# EAGLE library part XC2C384_FT256 (library m-pad-2.1)
XILINX's XC2C384 CoolRunner-II CPLD Description The CoolRunner-II 384-macrocell device is designed for both high performance and low power applications. This lends power savings to high-end communication equipment and high speed to battery operated devices. Due to the low power stand-by and dynamic operation, overall system reliability is improved This device consists of twenty four Function Blocks inter-connected by a low power Advanced Interconnect Matrix (AIM). The AIM feeds 40 true and complement inputs to each Function Block. The Function Blocks consist of a 40 by 56 P-term PLA and 16 macrocells which contain numerous configuration bits that allow for combinational or registered modes of operation. Additionally, these registers can be globally reset or preset and configured as a D or T flip-flop or as a D latch. There are also multiple clock signals, both global and local product term types, configured on a per macrocell basis. Output pin configurations include slew rate limit, bus hold, pull-up, open drain and programmable grounds. A Schmitt-trigger input is available on a per input pin basis. In addition to storing macrocell output states, the macrocell registers may be configured as direct input registers to store signals directly from input pins. Clocking is available on a global or Function Block basis. Three global clocks are available for all Function Blocks as a synchronous clock source. Macrocell registers can be individually configured to power up to the zero or one state. A global set/reset control line is also available to asynchronously set or reset selected registers during operation. Additional local clock, synchronous clock-enable, asynchronous set/reset and output enable signals can be formed using product terms on a per-macrocell or per-Function Block basis. A DualEDGE flip-flop feature is also available on a per macrocell basis. This feature allows high performance synchronous operation based on lower frequency clocking to help reduce the total power consumption of the device. Circuitry has also been included to divide one externally supplied global clock (GCK2) by eight different selections. This yields divide by even and odd clock frequencies. The use of the clock divide (division by 2) and DualEDGE flip-flop gives the resultant CoolCLOCK feature. DataGATE is a method to selectively disable inputs of the CPLD that are not of interest during certain points in time. By mapping a signal to the DataGATE function, lower power can be achieved due to reduction in signal switching. Another feature that eases voltage translation is I/O banking. Four I/O banks are available on the CoolRunner-II 384 macrocell device that permit easy interfacing to 3.3V, 2.5V, 1.8V, and 1.5V devices. The CoolRunner-II 384 macrocell CPLD is I/O compatible with various I/O standards (see Table 1). This device is also 1.5V I/O compatible with the use of Schmitt-trigger inputs. Features: Optimized for 1.8V systems - As fast as 7.1 ns pin-to-pin delays - As low as 14 ?A quiescent current Industry?s best 0.18 micron CMOS CPLD - Optimized architecture for effective logic synthesis - Multi-voltage I/O operation ? 1.5V to 3.3V Available in multiple package options - 144-pin TQFP with 118 user I/O - 208-pin PQFP with 173 user I/O - 256-ball FT (1.0mm) BGA with 212 user I/O - 324-ball FG (1.0mm) BGA with 240 user I/O - Pb-free available for all packages Advanced system features - Fastest in system programming · 1.8V ISP using IEEE 1532 (JTAG) interface - IEEE1149.1 JTAG Boundary Scan Test - Optional Schmitt-trigger input (per pin) - Unsurpassed low power management · DataGATE enable (DGE) signal control - Four separate I/O banks - RealDigital 100% CMOS product term generation - Flexible clocking modes · Optional DualEDGE triggered registers · Clock divider (divide by 2,4,6,8,10,12,14,16) · CoolCLOCK - Global signal options with macrocell control · Multiple global clocks with phase selection per macrocell · Multiple global output enables · Global set/reset - Advanced design security - PLA architecture · Superior pinout retention · 100% product term routability across function block - Open-drain output option for Wired-OR and LED drive - Optional bus-hold, 3-state or weak pullup on selected I/O pins - Optional configurable grounds on unused I/Os - Mixed I/O voltages compatible with 1.5V, 1.8V, 2.5V, and 3.3V logic levels · SSTL2-1, SSTL3-1, and HSTL-1 I/O compatibility - Hot pluggable Please send any comments to: messi@users.sourceforge.net
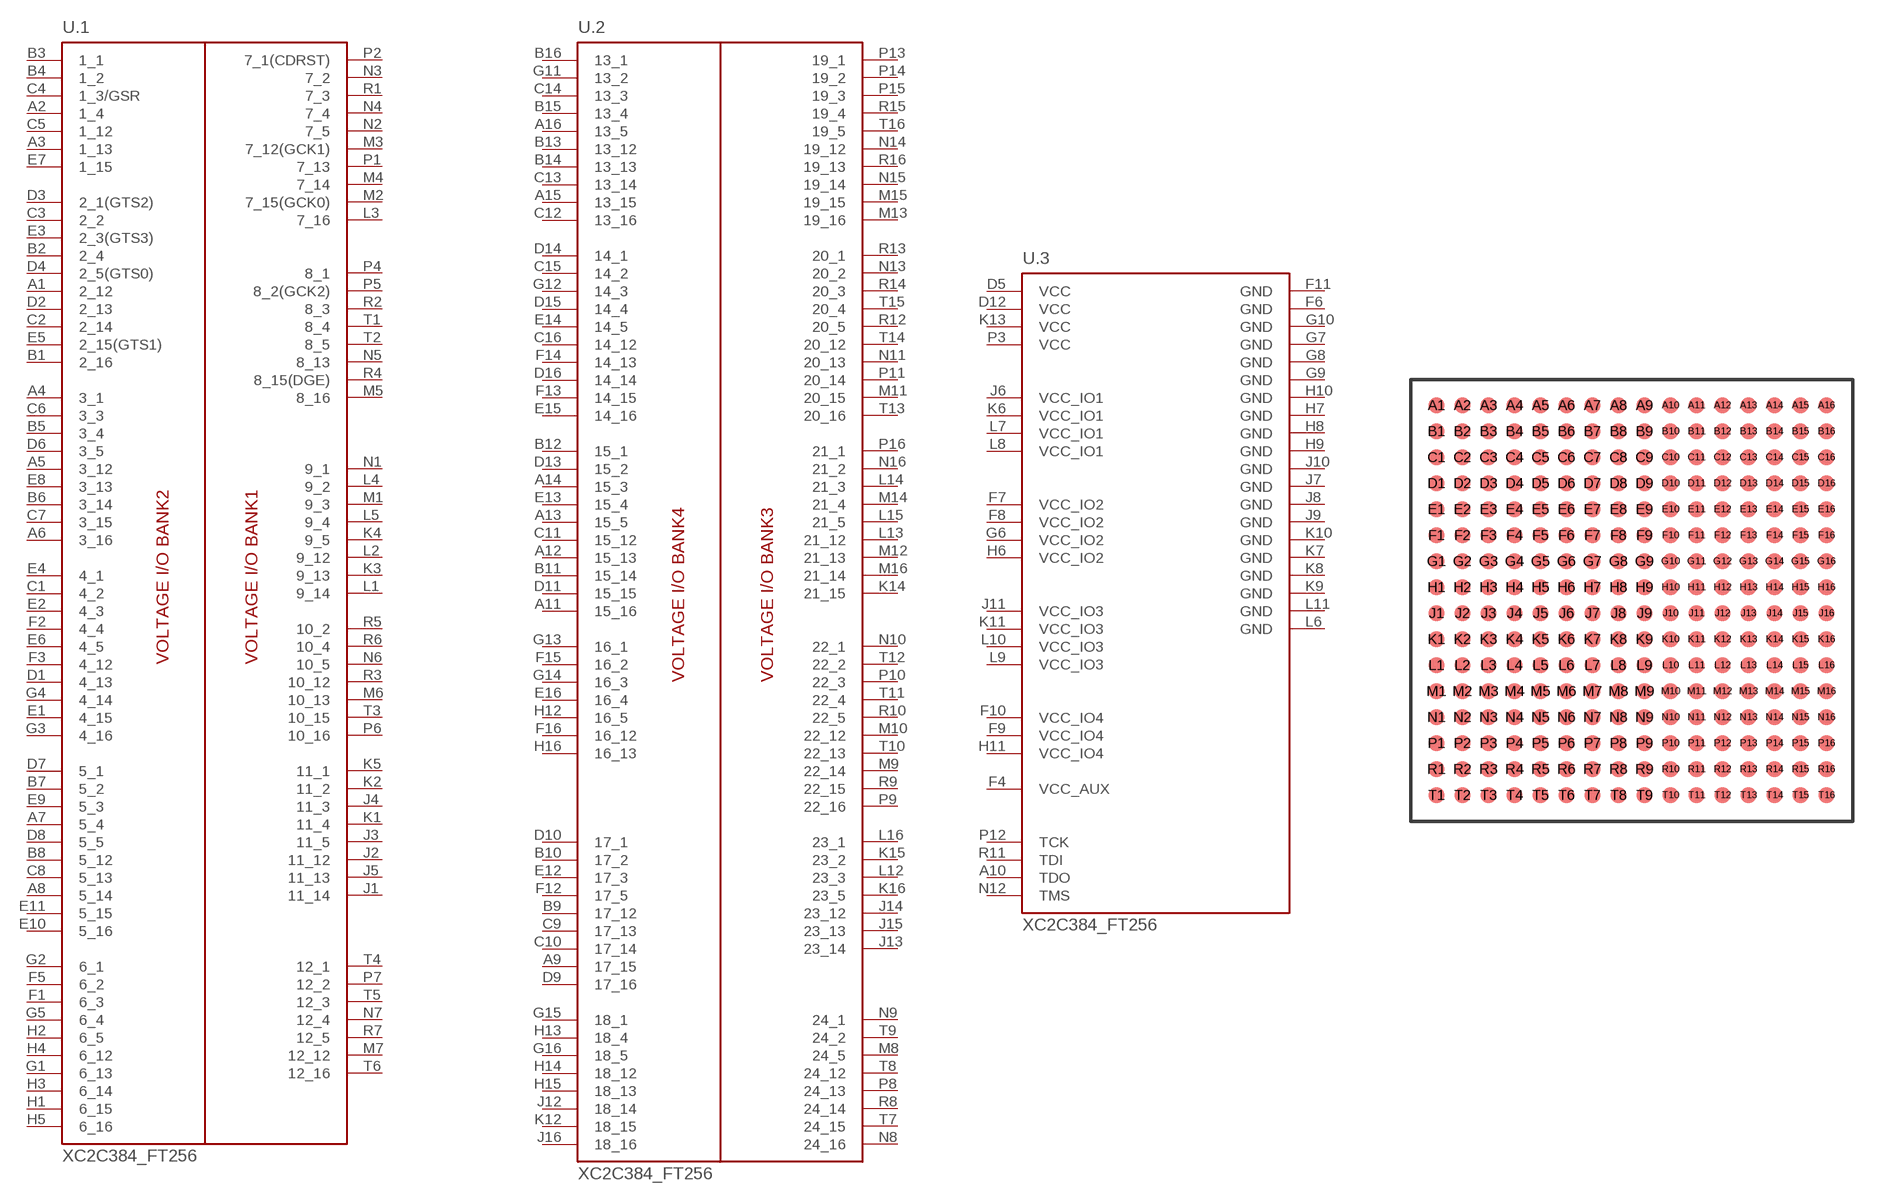
[diagram p157: symbol with the pads of FT256_FTG256; footprint FT256_FTG256]

Designator prefix U; gates .1=XC2C384_FT256_1_12 .2=XC2C384_FT256_13_24 .3=XC2C384_FT256_PWR

## XC2C384_FT256  [FT256_FTG256]
A1  .1:2_12
A2  .1:1_4
A3  .1:1_13
A4  .1:3_1
A5  .1:3_12
A6  .1:3_16
A7  .1:5_4
A8  .1:5_14
A9  .2:17_15
A10  .3:TDO  out
A11  .2:15_16
A12  .2:15_13
A13  .2:15_5
A14  .2:15_3
A15  .2:13_15
A16  .2:13_5
B1  .1:2_16
B2  .1:2_4
B3  .1:1_1
B4  .1:1_2
B5  .1:3_4
B6  .1:3_14
B7  .1:5_2
B8  .1:5_12
B9  .2:17_12
B10  .2:17_2
B11  .2:15_14
B12  .2:15_1
B13  .2:13_12
B14  .2:13_13
B15  .2:13_4
B16  .2:13_1
C1  .1:4_2
C2  .1:2_14
C3  .1:2_2
C4  .1:1_3/GSR
C5  .1:1_12
C6  .1:3_3
C7  .1:3_15
C8  .1:5_13
C9  .2:17_13
C10  .2:17_14
C11  .2:15_12
C12  .2:13_16
C13  .2:13_14
C14  .2:13_3
C15  .2:14_2
C16  .2:14_12
D1  .1:4_13
D2  .1:2_13
D3  .1:2_1(GTS2)
D4  .1:2_5(GTS0)
D5  .3:VCC  pwr
D6  .1:3_5
D7  .1:5_1
D8  .1:5_5
D9  .2:17_16
D10  .2:17_1
D11  .2:15_15
D12  .3:VCC  pwr
D13  .2:15_2
D14  .2:14_1
D15  .2:14_4
D16  .2:14_14
E1  .1:4_15
E2  .1:4_3
E3  .1:2_3(GTS3)
E4  .1:4_1
E5  .1:2_15(GTS1)
E6  .1:4_5
E7  .1:1_15
E8  .1:3_13
E9  .1:5_3
E10  .1:5_16
E11  .1:5_15
E12  .2:17_3
E13  .2:15_4
E14  .2:14_5
E15  .2:14_16
E16  .2:16_4
F1  .1:6_3
F2  .1:4_4
F3  .1:4_12
F4  .3:VCC_AUX  pwr
F5  .1:6_2
F6  .3:GND  pwr
F7  .3:VCC_IO2  pwr
F8  .3:VCC_IO2  pwr
F9  .3:VCC_IO4  pwr
F10  .3:VCC_IO4  pwr
F11  .3:GND  pwr
F12  .2:17_5
F13  .2:14_15
F14  .2:14_13
F15  .2:16_2
F16  .2:16_12
G1  .1:6_13
G2  .1:6_1
G3  .1:4_16
G4  .1:4_14
G5  .1:6_4
G6  .3:VCC_IO2  pwr
G7  .3:GND  pwr
G8  .3:GND  pwr
G9  .3:GND  pwr
G10  .3:GND  pwr
G11  .2:13_2
G12  .2:14_3
G13  .2:16_1
G14  .2:16_3
G15  .2:18_1
G16  .2:18_5
H1  .1:6_15
H2  .1:6_5
H3  .1:6_14
H4  .1:6_12
H5  .1:6_16
H6  .3:VCC_IO2  pwr
H7  .3:GND  pwr
H8  .3:GND  pwr
H9  .3:GND  pwr
H10  .3:GND  pwr
H11  .3:VCC_IO4  pwr
H12  .2:16_5
H13  .2:18_4
H14  .2:18_12
H15  .2:18_13
H16  .2:16_13
J1  .1:11_14
J2  .1:11_12
J3  .1:11_5
J4  .1:11_3
J5  .1:11_13
J6  .3:VCC_IO1  pwr
J7  .3:GND  pwr
J8  .3:GND  pwr
J9  .3:GND  pwr
J10  .3:GND  pwr
J11  .3:VCC_IO3  pwr
J12  .2:18_14
J13  .2:23_14
J14  .2:23_12
J15  .2:23_13
J16  .2:18_16
K1  .1:11_4
K2  .1:11_2
K3  .1:9_13
K4  .1:9_5
K5  .1:11_1
K6  .3:VCC_IO1  pwr
K7  .3:GND  pwr
K8  .3:GND  pwr
K9  .3:GND  pwr
K10  .3:GND  pwr
K11  .3:VCC_IO3  pwr
K12  .2:18_15
K13  .3:VCC  pwr
K14  .2:21_15
K15  .2:23_2
K16  .2:23_5
L1  .1:9_14
L2  .1:9_12
L3  .1:7_16
L4  .1:9_2
L5  .1:9_4
L6  .3:GND  pwr
L7  .3:VCC_IO1  pwr
L8  .3:VCC_IO1  pwr
L9  .3:VCC_IO3  pwr
L10  .3:VCC_IO3  pwr
L11  .3:GND  pwr
L12  .2:23_3
L13  .2:21_12
L14  .2:21_3
L15  .2:21_5
L16  .2:23_1
M1  .1:9_3
M2  .1:7_15(GCK0)
M3  .1:7_12(GCK1)
M4  .1:7_14
M5  .1:8_16
M6  .1:10_13
M7  .1:12_12
M8  .2:24_5
M9  .2:22_14
M10  .2:22_12
M11  .2:20_15
M12  .2:21_13
M13  .2:19_16
M14  .2:21_4
M15  .2:19_15
M16  .2:21_14
N1  .1:9_1
N2  .1:7_5
N3  .1:7_2
N4  .1:7_4
N5  .1:8_13
N6  .1:10_5
N7  .1:12_4
N8  .2:24_16
N9  .2:24_1
N10  .2:22_1
N11  .2:20_13
N12  .3:TMS
N13  .2:20_2
N14  .2:19_12
N15  .2:19_14
N16  .2:21_2
P1  .1:7_13
P2  .1:7_1(CDRST)
P3  .3:VCC  pwr
P4  .1:8_1
P5  .1:8_2(GCK2)
P6  .1:10_16
P7  .1:12_2
P8  .2:24_13
P9  .2:22_16
P10  .2:22_3
P11  .2:20_14
P12  .3:TCK  in
P13  .2:19_1
P14  .2:19_2
P15  .2:19_3
P16  .2:21_1
R1  .1:7_3
R2  .1:8_3
R3  .1:10_12
R4  .1:8_15(DGE)
R5  .1:10_2
R6  .1:10_4
R7  .1:12_5
R8  .2:24_14
R9  .2:22_15
R10  .2:22_5
R11  .3:TDI  in
R12  .2:20_5
R13  .2:20_1
R14  .2:20_3
R15  .2:19_4
R16  .2:19_13
T1  .1:8_4
T2  .1:8_5
T3  .1:10_15
T4  .1:12_1
T5  .1:12_3
T6  .1:12_16
T7  .2:24_15
T8  .2:24_12
T9  .2:24_2
T10  .2:22_13
T11  .2:22_4
T12  .2:22_2
T13  .2:20_16
T14  .2:20_12
T15  .2:20_4
T16  .2:19_5

## Footprint FT256_FTG256 (pad centres in mm)
XILINX 256-BALL FINE-PITCH THIN BGA, 1.00MM PITCH (FT256/FTG256)
smd 0.6 x 0.6: A1 -7.5,7.5; A2 -6.5,7.5; A3 -5.5,7.5; A4 -4.5,7.5; A5 -3.5,7.5; A6 -2.5,7.5; A7 -1.5,7.5; A8 -0.5,7.5; A9 0.5,7.5; A10 1.5,7.5; A11 2.5,7.5; A12 3.5,7.5; A13 4.5,7.5; A14 5.5,7.5; A15 6.5,7.5; A16 7.5,7.5; B1 -7.5,6.5; B2 -6.5,6.5; B3 -5.5,6.5; B4 -4.5,6.5; B5 -3.5,6.5; B6 -2.5,6.5; B7 -1.5,6.5; B8 -0.5,6.5; B9 0.5,6.5; B10 1.5,6.5; B11 2.5,6.5; B12 3.5,6.5; B13 4.5,6.5; B14 5.5,6.5; B15 6.5,6.5; B16 7.5,6.5; C1 -7.5,5.5; C2 -6.5,5.5; C3 -5.5,5.5; C4 -4.5,5.5; C5 -3.5,5.5; C6 -2.5,5.5; C7 -1.5,5.5; C8 -0.5,5.5; C9 0.5,5.5; C10 1.5,5.5; C11 2.5,5.5; C12 3.5,5.5; C13 4.5,5.5; C14 5.5,5.5; C15 6.5,5.5; C16 7.5,5.5; D1 -7.5,4.5; D2 -6.5,4.5; D3 -5.5,4.5; D4 -4.5,4.5; D5 -3.5,4.5; D6 -2.5,4.5; D7 -1.5,4.5; D8 -0.5,4.5; D9 0.5,4.5; D10 1.5,4.5; D11 2.5,4.5; D12 3.5,4.5; D13 4.5,4.5; D14 5.5,4.5; D15 6.5,4.5; D16 7.5,4.5; E1 -7.5,3.5; E2 -6.5,3.5; E3 -5.5,3.5; E4 -4.5,3.5; E5 -3.5,3.5; E6 -2.5,3.5; E7 -1.5,3.5; E8 -0.5,3.5; E9 0.5,3.5; E10 1.5,3.5; E11 2.5,3.5; E12 3.5,3.5; E13 4.5,3.5; E14 5.5,3.5; E15 6.5,3.5; E16 7.5,3.5; F1 -7.5,2.5; F2 -6.5,2.5; F3 -5.5,2.5; F4 -4.5,2.5; F5 -3.5,2.5; F6 -2.5,2.5; F7 -1.5,2.5; F8 -0.5,2.5; F9 0.5,2.5; F10 1.5,2.5; F11 2.5,2.5; F12 3.5,2.5; F13 4.5,2.5; F14 5.5,2.5; F15 6.5,2.5; F16 7.5,2.5; G1 -7.5,1.5; G2 -6.5,1.5; G3 -5.5,1.5; G4 -4.5,1.5; G5 -3.5,1.5; G6 -2.5,1.5; G7 -1.5,1.5; G8 -0.5,1.5; G9 0.5,1.5; G10 1.5,1.5; G11 2.5,1.5; G12 3.5,1.5; G13 4.5,1.5; G14 5.5,1.5; G15 6.5,1.5; G16 7.5,1.5; H1 -7.5,0.5; H2 -6.5,0.5; H3 -5.5,0.5; H4 -4.5,0.5; H5 -3.5,0.5; H6 -2.5,0.5; H7 -1.5,0.5; H8 -0.5,0.5; H9 0.5,0.5; H10 1.5,0.5; H11 2.5,0.5; H12 3.5,0.5; H13 4.5,0.5; H14 5.5,0.5; H15 6.5,0.5; H16 7.5,0.5; J1 -7.5,-0.5; J2 -6.5,-0.5; J3 -5.5,-0.5; J4 -4.5,-0.5; J5 -3.5,-0.5; J6 -2.5,-0.5; J7 -1.5,-0.5; J8 -0.5,-0.5; J9 0.5,-0.5; J10 1.5,-0.5; J11 2.5,-0.5; J12 3.5,-0.5; J13 4.5,-0.5; J14 5.5,-0.5; J15 6.5,-0.5; J16 7.5,-0.5; K1 -7.5,-1.5; K2 -6.5,-1.5; K3 -5.5,-1.5; K4 -4.5,-1.5; K5 -3.5,-1.5; K6 -2.5,-1.5; K7 -1.5,-1.5; K8 -0.5,-1.5; K9 0.5,-1.5; K10 1.5,-1.5; K11 2.5,-1.5; K12 3.5,-1.5; K13 4.5,-1.5; K14 5.5,-1.5; K15 6.5,-1.5; K16 7.5,-1.5; L1 -7.5,-2.5; L2 -6.5,-2.5; L3 -5.5,-2.5; L4 -4.5,-2.5; L5 -3.5,-2.5; L6 -2.5,-2.5; L7 -1.5,-2.5; L8 -0.5,-2.5; L9 0.5,-2.5; L10 1.5,-2.5; L11 2.5,-2.5; L12 3.5,-2.5; L13 4.5,-2.5; L14 5.5,-2.5; L15 6.5,-2.5; L16 7.5,-2.5; M1 -7.5,-3.5; M2 -6.5,-3.5; M3 -5.5,-3.5; M4 -4.5,-3.5; M5 -3.5,-3.5; M6 -2.5,-3.5; M7 -1.5,-3.5; M8 -0.5,-3.5; M9 0.5,-3.5; M10 1.5,-3.5; M11 2.5,-3.5; M12 3.5,-3.5; M13 4.5,-3.5; M14 5.5,-3.5; M15 6.5,-3.5; M16 7.5,-3.5; N1 -7.5,-4.5; N2 -6.5,-4.5; N3 -5.5,-4.5; N4 -4.5,-4.5; N5 -3.5,-4.5; N6 -2.5,-4.5; N7 -1.5,-4.5; N8 -0.5,-4.5; N9 0.5,-4.5; N10 1.5,-4.5; N11 2.5,-4.5; N12 3.5,-4.5; N13 4.5,-4.5; N14 5.5,-4.5; N15 6.5,-4.5; N16 7.5,-4.5; P1 -7.5,-5.5; P2 -6.5,-5.5; P3 -5.5,-5.5; P4 -4.5,-5.5; P5 -3.5,-5.5; P6 -2.5,-5.5; P7 -1.5,-5.5; P8 -0.5,-5.5; P9 0.5,-5.5; P10 1.5,-5.5; P11 2.5,-5.5; P12 3.5,-5.5; P13 4.5,-5.5; P14 5.5,-5.5; P15 6.5,-5.5; P16 7.5,-5.5; R1 -7.5,-6.5; R2 -6.5,-6.5; R3 -5.5,-6.5; R4 -4.5,-6.5; R5 -3.5,-6.5; R6 -2.5,-6.5; R7 -1.5,-6.5; R8 -0.5,-6.5; R9 0.5,-6.5; R10 1.5,-6.5; R11 2.5,-6.5; R12 3.5,-6.5; R13 4.5,-6.5; R14 5.5,-6.5; R15 6.5,-6.5; R16 7.5,-6.5; T1 -7.5,-7.5; T2 -6.5,-7.5; T3 -5.5,-7.5; T4 -4.5,-7.5; T5 -3.5,-7.5; T6 -2.5,-7.5; T7 -1.5,-7.5; T8 -0.5,-7.5; T9 0.5,-7.5; T10 1.5,-7.5; T11 2.5,-7.5; T12 3.5,-7.5; T13 4.5,-7.5; T14 5.5,-7.5; T15 6.5,-7.5; T16 7.5,-7.5